# EAGLE library part AD623 (library ad623)
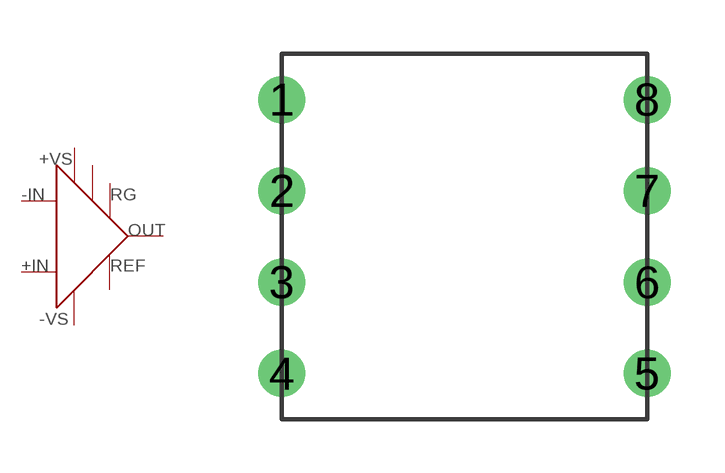
[diagram p0: symbol with the pads of AD623; footprint AD623]

Designator prefix -

## AD623  [AD623]
1  -RG
2  -IN
3  +IN
4  -VS
5  REF
6  OUT
7  +VS
8  +RG

## Footprint AD623 (pad centres in mm)
drill 0.8: 1 -5.08,3.81; 2 -5.08,1.27; 3 -5.08,-1.27; 4 -5.08,-3.81; 5 5.08,-3.81; 6 5.08,-1.27; 7 5.08,1.27; 8 5.08,3.81